# Altium footprint library EwgSwitchers.PcbLib: 19 footprints (part 2 of 2)
Each footprint in its own frame and in the unit in brackets; x right, y up, seen from the top. Pads: shape width x height; smd on the part's side, far side on the other; paste and mask are expansions set on the pad; w line width, h text height; cw(c..) or ccw(c..) is an arc to the next point about the centre after c.
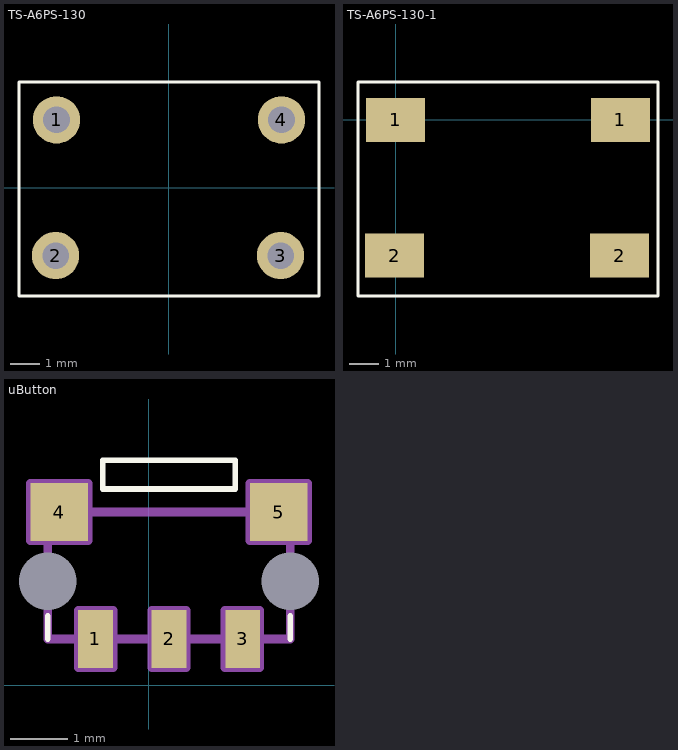
[diagram p1: the footprints below, top view; thin cyan lines are the x and y axes]

## TS-A6PS-130 [mm]
pads (4):
  round 1.6 hole 0.9: 1(-3.794,2.297) 2(-3.826,-2.297) 3(3.794,-2.297) 4(3.826,2.297)
Top Overlay:
  lines w0.1: -5.064,-3.672 -5.064,3.587 5.096,3.587 5.096,-3.672 -5.064,-3.672
3D body: height 11, standoff -2, extent -4.1,-3.003 4.112,2.997

## TS-A6PS-130-1 [mm]
pads (4):
  rect 2x1.5 smd: 1(0,0) 1(7.62,0) 2(-0.032,-4.593) 2(7.588,-4.593)
Top Overlay:
  lines w0.1: -1.27,-5.969 8.89,-5.969 8.89,1.29 -1.27,1.29 -1.27,-5.969
3D body: height 11, standoff -2, extent -0.306,-5.3 7.906,0.7

## uButton [mm]
pads (7):
  round 0 hole 1 unplated: 0(-1.75,1.8) 0(2.45,1.8)
  rect 0.6x1 smd: 1(-0.925,0.8) 2(0.35,0.8) 3(1.625,0.8)
  rect 1x1 smd: 4(-1.55,3) 5(2.25,3)
Top Overlay:
  lines w0.1: -1.75,0.8 -1.75,1.2 ; 2.45,0.8 2.45,1.2 ; -0.8,3.4 1.5,3.4 1.5,3.9 -0.8,3.9 -0.8,3.4
Mechanical 1:
  circle w0.15: c-1.75,1.8 r0.4
  circle w0.15: c2.45,1.8 r0.4
  lines w0.15: -2.05,2.5 -2.05,3.5 -1.05,3.5 -1.05,2.5 -2.05,2.5 ; -1.75,0.8 2.45,0.8 2.45,3 -1.75,3 -1.75,0.8 ; -1.22,0.3 -0.62,0.3 -0.62,1.3 -1.22,1.3 -1.22,0.3 ; 0.05,0.3 0.65,0.3 0.65,1.3 0.05,1.3 0.05,1.05 0.05,0.55 0.05,0.3 ; 1.32,0.3 1.92,0.3 1.92,1.3 1.32,1.3 1.32,0.3 ; 1.75,2.5 2.75,2.5 2.75,3.5 1.75,3.5 1.75,2.5